# EAGLE library part TVP5150AM1 (library lib_stankus)
TI TVP5150AM1 video decoder Farnell #8462038 , #2114099
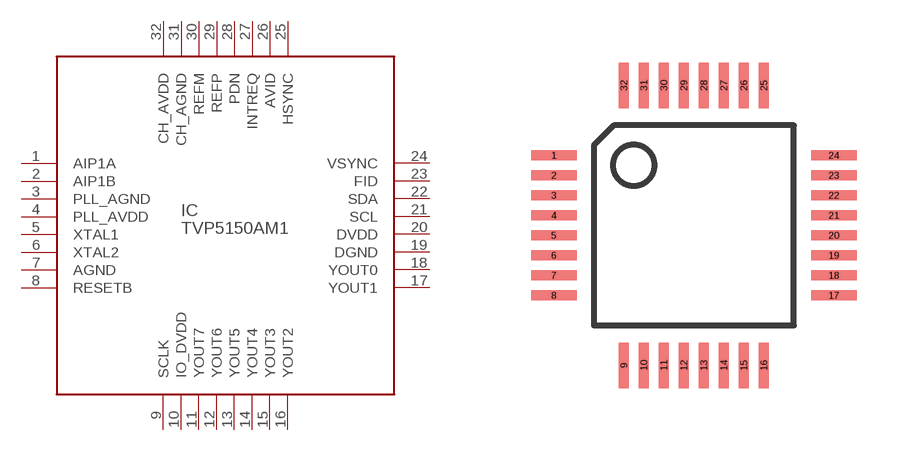
[diagram p38: symbol with the pads of QFP32_5_05; footprint QFP32_5_05]

Designator prefix IC

## TVP5150AM1-QFP32  [QFP32_5_05]
1  AIP1A  pas
2  AIP1B  pas
3  PLL_AGND  pas
4  PLL_AVDD  pas
5  XTAL1  pas
6  XTAL2  pas
7  AGND  pas
8  RESETB  pas
9  SCLK  pas
10  IO_DVDD  pas
11  YOUT7  pas
12  YOUT6  pas
13  YOUT5  pas
14  YOUT4  pas
15  YOUT3  pas
16  YOUT2  pas
17  YOUT1  pas
18  YOUT0  pas
19  DGND  pas
20  DVDD  pas
21  SCL  pas
22  SDA  pas
23  FID  pas
24  VSYNC  pas
25  HSYNC  pas
26  AVID  pas
27  INTREQ  pas
28  PDN  pas
29  REFP  pas
30  REFM  pas
31  CH_AGND  pas
32  CH_AVDD  pas

## Footprint QFP32_5_05 (pad centres in mm)
QFP32, 5x5 MM, 0.5 MM
smd 1.143 x 0.254: 1 -3.5,1.75; 2 -3.5,1.25; 3 -3.5,0.75; 4 -3.5,0.25; 5 -3.5,-0.25; 6 -3.5,-0.75; 7 -3.5,-1.25; 8 -3.5,-1.75; 17 3.5,-1.75; 18 3.5,-1.25; 19 3.5,-0.75; 20 3.5,-0.25; 21 3.5,0.25; 22 3.5,0.75; 23 3.5,1.25; 24 3.5,1.75
smd 0.254 x 1.143: 9 -1.75,-3.5; 10 -1.25,-3.5; 11 -0.75,-3.5; 12 -0.25,-3.5; 13 0.25,-3.5; 14 0.75,-3.5; 15 1.25,-3.5; 16 1.75,-3.5; 25 1.75,3.5; 26 1.25,3.5; 27 0.75,3.5; 28 0.25,3.5; 29 -0.25,3.5; 30 -0.75,3.5; 31 -1.25,3.5; 32 -1.75,3.5